# EAGLE library part SAM3U4C (library untitled)
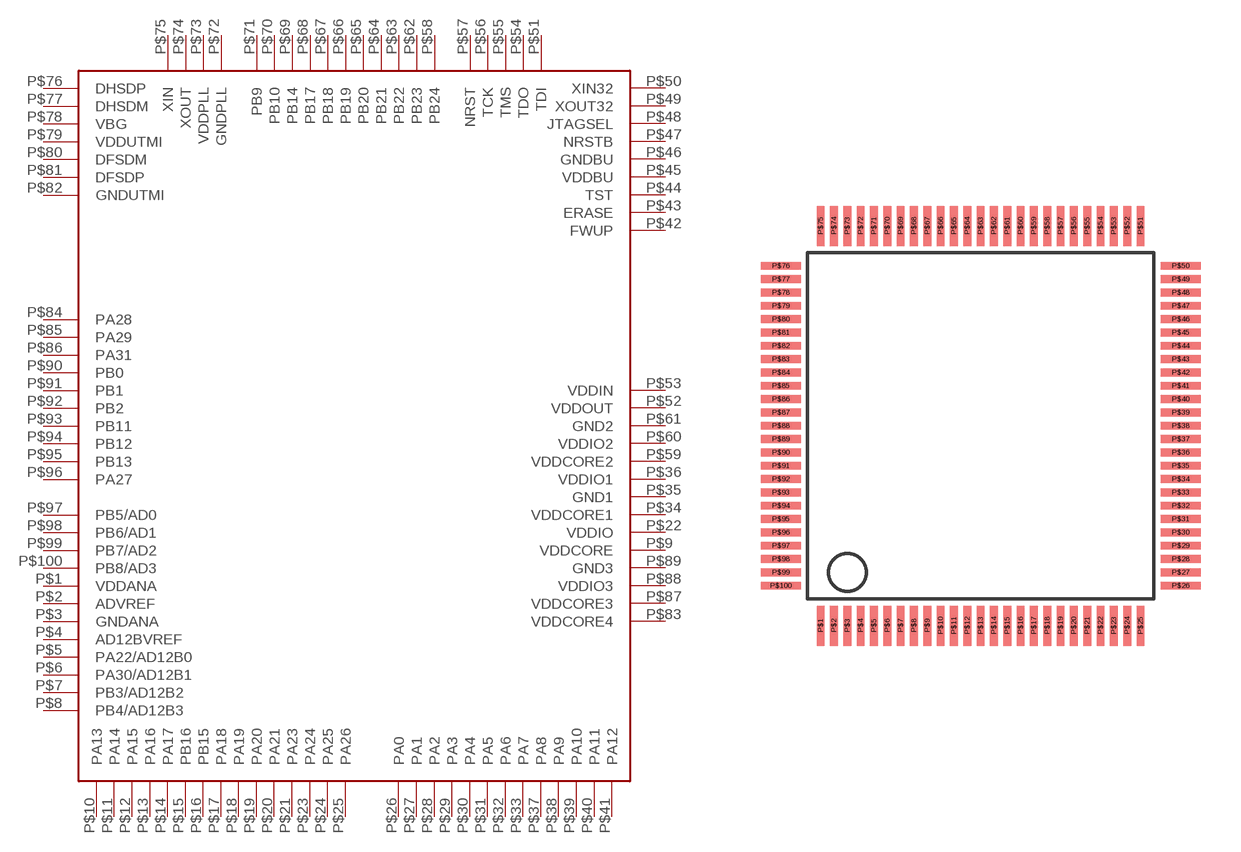
[diagram p15: symbol with the pads of LQFP100; footprint LQFP100]

Designator prefix -

## SAM3U4C  [LQFP100]
P$1  VDDANA
P$2  ADVREF
P$3  GNDANA
P$4  AD12BVREF
P$5  PA22/AD12B0
P$6  PA30/AD12B1
P$7  PB3/AD12B2
P$8  PB4/AD12B3
P$9  VDDCORE
P$10  PA13
P$11  PA14
P$12  PA15
P$13  PA16
P$14  PA17
P$15  PB16
P$16  PB15
P$17  PA18
P$18  PA19
P$19  PA20
P$20  PA21
P$21  PA23
P$22  VDDIO
P$23  PA24
P$24  PA25
P$25  PA26
P$26  PA0
P$27  PA1
P$28  PA2
P$29  PA3
P$30  PA4
P$31  PA5
P$32  PA6
P$33  PA7
P$34  VDDCORE1
P$35  GND1
P$36  VDDIO1
P$37  PA8
P$38  PA9
P$39  PA10
P$40  PA11
P$41  PA12
P$42  FWUP
P$43  ERASE
P$44  TST
P$45  VDDBU
P$46  GNDBU
P$47  NRSTB
P$48  JTAGSEL
P$49  XOUT32
P$50  XIN32
P$51  TDI
P$52  VDDOUT
P$53  VDDIN
P$54  TDO
P$55  TMS
P$56  TCK
P$57  NRST
P$58  PB24
P$59  VDDCORE2
P$60  VDDIO2
P$61  GND2
P$62  PB23
P$63  PB22
P$64  PB21
P$65  PB20
P$66  PB19
P$67  PB18
P$68  PB17
P$69  PB14
P$70  PB10
P$71  PB9
P$72  GNDPLL
P$73  VDDPLL
P$74  XOUT
P$75  XIN
P$76  DHSDP
P$77  DHSDM
P$78  VBG
P$79  VDDUTMI
P$80  DFSDM
P$81  DFSDP
P$82  GNDUTMI
P$83  VDDCORE4
P$84  PA28
P$85  PA29
P$86  PA31
P$87  VDDCORE3
P$88  VDDIO3
P$89  GND3
P$90  PB0
P$91  PB1
P$92  PB2
P$93  PB11
P$94  PB12
P$95  PB13
P$96  PA27
P$97  PB5/AD0
P$98  PB6/AD1
P$99  PB7/AD2
P$100  PB8/AD3

## Footprint LQFP100 (pad centres in mm)
smd 0.29 x 1.5: P$1 -6,-7.5; P$2 -5.5,-7.5; P$3 -5,-7.5; P$4 -4.5,-7.5; P$5 -4,-7.5; P$6 -3.5,-7.5; P$7 -3,-7.5; P$8 -2.5,-7.5; P$9 -2,-7.5; P$10 -1.5,-7.5; P$11 -1,-7.5; P$12 -0.5,-7.5; P$13 0,-7.5; P$14 0.5,-7.5; P$15 1,-7.5; P$16 1.5,-7.5; P$17 2,-7.5; P$18 2.5,-7.5; P$19 3,-7.5; P$20 3.5,-7.5; P$21 4,-7.5; P$22 4.5,-7.5; P$23 5,-7.5; P$24 5.5,-7.5; P$25 6,-7.5; P$51 6,7.5; P$52 5.5,7.5; P$53 5,7.5; P$54 4.5,7.5; P$55 4,7.5; P$56 3.5,7.5; P$57 3,7.5; P$58 2.5,7.5; P$59 2,7.5; P$60 1.5,7.5; P$61 1,7.5; P$62 0.5,7.5; P$63 0,7.5; P$64 -0.5,7.5; P$65 -1,7.5; P$66 -1.5,7.5; P$67 -2,7.5; P$68 -2.5,7.5; P$69 -3,7.5; P$70 -3.5,7.5; P$71 -4,7.5; P$72 -4.5,7.5; P$73 -5,7.5; P$74 -5.5,7.5; P$75 -6,7.5
smd 1.5 x 0.29: P$26 7.5,-6; P$27 7.5,-5.5; P$28 7.5,-5; P$29 7.5,-4.5; P$30 7.5,-4; P$31 7.5,-3.5; P$32 7.5,-3; P$33 7.5,-2.5; P$34 7.5,-2; P$35 7.5,-1.5; P$36 7.5,-1; P$37 7.5,-0.5; P$38 7.5,0; P$39 7.5,0.5; P$40 7.5,1; P$41 7.5,1.5; P$42 7.5,2; P$43 7.5,2.5; P$44 7.5,3; P$45 7.5,3.5; P$46 7.5,4; P$47 7.5,4.5; P$48 7.5,5; P$49 7.5,5.5; P$50 7.5,6; P$76 -7.5,6; P$77 -7.5,5.5; P$78 -7.5,5; P$79 -7.5,4.5; P$80 -7.5,4; P$81 -7.5,3.5; P$82 -7.5,3; P$83 -7.5,2.5; P$84 -7.5,2; P$85 -7.5,1.5; P$86 -7.5,1; P$87 -7.5,0.5; P$88 -7.5,0; P$89 -7.5,-0.5; P$90 -7.5,-1; P$91 -7.5,-1.5; P$92 -7.5,-2; P$93 -7.5,-2.5; P$94 -7.5,-3; P$95 -7.5,-3.5; P$96 -7.5,-4; P$97 -7.5,-4.5; P$98 -7.5,-5; P$99 -7.5,-5.5; P$100 -7.5,-6